# EAGLE library part MS50SFA (library LARS_409_MK)
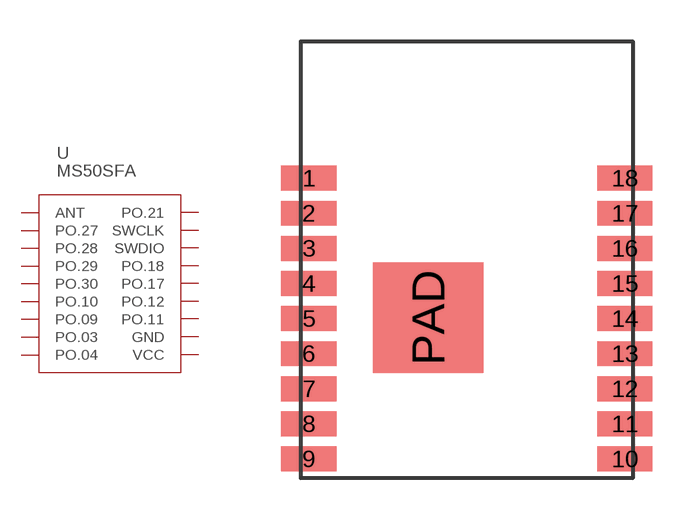
[diagram p10: symbol with the pads of 15.8X12.0X2.0MM; footprint 15.8X12.0X2.0MM]

Designator prefix U

## MS50SFA  [15.8X12.0X2.0MM]
1  ANT
2  PO.27
3  PO.28
4  PO.29
5  PO.30
6  PO.10
7  PO.09
8  PO.03
9  PO.04
10  VCC
11  GND
12  PO.11
13  PO.12
14  PO.17
15  PO.18
16  SWDIO
17  SWCLK
18  PO.21
PAD  GND

## Footprint 15.8X12.0X2.0MM (pad centres in mm)
smd 2 x 0.9: 1 -5.71,-4.95; 2 -5.71,-6.22; 3 -5.71,-7.49; 4 -5.71,-8.76; 5 -5.71,-10.03; 6 -5.71,-11.3; 7 -5.71,-12.57; 8 -5.71,-13.84; 9 -5.71,-15.11; 10 5.72,-15.11; 11 5.72,-13.84; 12 5.72,-12.57; 13 5.72,-11.3; 14 5.72,-10.03; 15 5.72,-8.76; 16 5.72,-7.49; 17 5.72,-6.22; 18 5.72,-4.95
smd 4 x 4: PAD -1.4,-10